# Altium schematic symbol library Reguladores.SchLib: 1 symbol
Pins are listed as number, name and electrical type; pins without a type are passive.

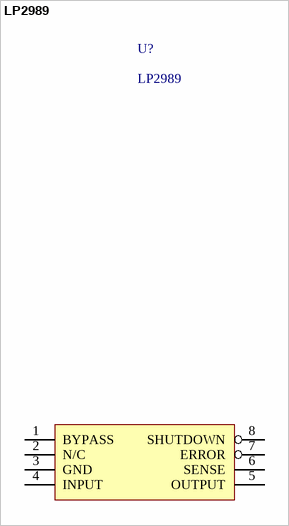
[diagram p0: symbol LP2989]

## LP2989
designator U?
Voltage Regulator; Autor: ROUX, Federico G. (rouxfederico@gmail.com); Empresa: Neróx; Fabricante: National Semiconductor; Descripcion: Micropower/Low Noise, 500mA Ultra Low-Dropout Regulator For Use With Ceramic Output Capacitors; Fecha de Creación: 14/06/2011; URL: www.national.com; Part: LP2989
footprint M08A_L (SOIC, 8-Leads, Body 4.9x3.9mm, Pitch 1.27mm, IPC High Density)
footprint M08A_M (SOIC, 8-Leads, Body 4.9x3.9mm, Pitch 1.27mm, IPC Low Density)
footprint M08A_N (SOIC, 8-Leads, Body 4.9x3.9mm, Pitch 1.27mm, IPC Medium Density)
pins: 1 BYPASS, 2 N/C, 3 GND, 4 INPUT, 5 OUTPUT, 6 SENSE, 7 ERROR, 8 SHUTDOWN